# EAGLE library part CONN_15 (library CalvEngIO-Connectors)
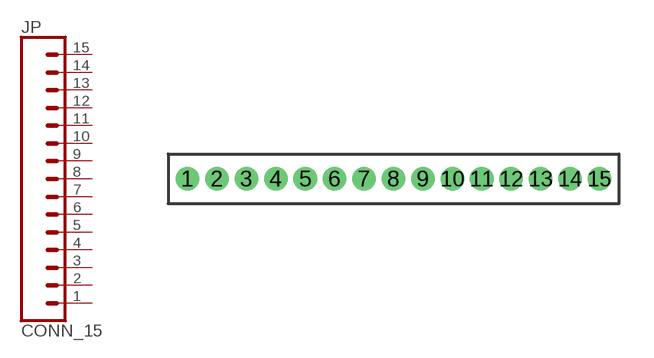
[diagram p22: symbol with the pads of 1X15_NO_SILK_50MIL; footprint 1X15_NO_SILK_50MIL]

Designator prefix JP

## CONN_15  [1X15_NO_SILK_50MIL]
1  1  pas
2  2  pas
3  3  pas
4  4  pas
5  5  pas
6  6  pas
7  7  pas
8  8  pas
9  9  pas
10  10  pas
11  11  pas
12  12  pas
13  13  pas
14  14  pas
15  15  pas

## Footprint 1X15_NO_SILK_50MIL (pad centres in mm)
Plated Through Hole -14 Pin No Silk outline Specifications: Pin count:14 Pin pitch:0.1" Example device(s): CONN_14
drill 0.508 pad 1.016: 1 0,0; 2 1.27,0; 3 2.54,0; 4 3.81,0; 5 5.08,0; 6 6.35,0; 7 7.62,0; 8 8.89,0; 9 10.16,0; 10 11.43,0; 11 12.7,0; 12 13.97,0; 13 15.24,0; 14 16.51,0; 15 17.78,0